# EAGLE library part 24LC08B-I/SN (library Microchip_By_element14_Batch_1)
8K I2C Serial EEPROM
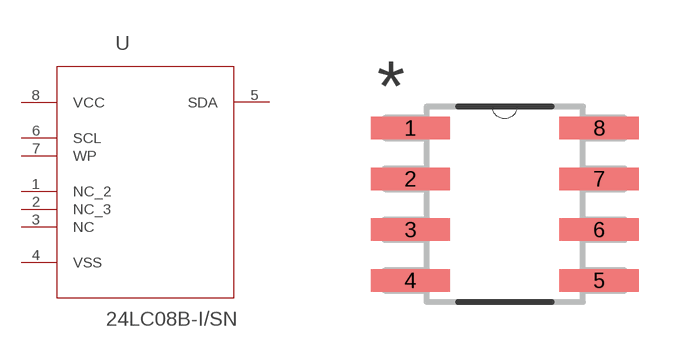
[diagram p56: symbol with the pads of SOIC127P600X175-8N; footprint SOIC127P600X175-8N]

Designator prefix -

## 24LC08B-I/SN (DESCRIPTION: 8K I2C Serial EEPROM; MPN: 24LC08B-I/SN; OC_FARNELL: 1296571; OC_NEWARK: 80K6265; PACKAGE: SOIC-8; SUPPLIER: Microchip)  [SOIC127P600X175-8N]
1  NC_2  nc
2  NC_3  nc
3  NC  nc
4  VSS  pwr
5  SDA
6  SCL  in
7  WP  in
8  VCC  pwr

## Footprint SOIC127P600X175-8N (pad centres in mm)
smd 1.981 x 0.559: 1 -2.362,1.905; 2 -2.362,0.635; 3 -2.362,-0.635; 4 -2.362,-1.905; 5 2.362,-1.905; 6 2.362,-0.635; 7 2.362,0.635; 8 2.362,1.905